# EAGLE library part 62202821821 (library Wurth_Elektronik2)
WR-PHD 1.27mm Dual Socket Header, 28 Pins=>Code : Con_BTB_SHD_1.27_2_62202821821 <http://katalog.we-online.de/media/thumbs2/eican/thb_Con_BTB_SHD_1.27_2_6220xx21821_pf2.jpg> Details see: http://katalog.we-online.de/en/em/622_0xx_218_21 Created 2014-06-04, Karrer Zheng 2014 (C) Würth Elektronik
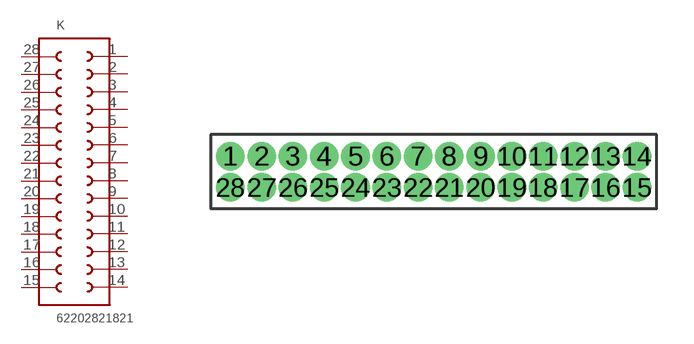
[diagram p306: symbol with the pads of 62202821821; footprint 62202821821]

Designator prefix K

## 62202821821  [62202821821]
1  1  pas
2  2  pas
3  3  pas
4  4  pas
5  5  pas
6  6  pas
7  7  pas
8  8  pas
9  9  pas
10  10  pas
11  11  pas
12  12  pas
13  13  pas
14  14  pas
15  15  pas
16  16  pas
17  17  pas
18  18  pas
19  19  pas
20  20  pas
21  21  pas
22  22  pas
23  23  pas
24  24  pas
25  25  pas
26  26  pas
27  27  pas
28  28  pas

## Footprint 62202821821 (pad centres in mm)
WR-PHD 1.27mm Dual Socket Header, 28 Pins
drill 0.65: 1 -8.255,0.635; 2 -6.985,0.635; 3 -5.715,0.635; 4 -4.445,0.635; 5 -3.175,0.635; 6 -1.905,0.635; 7 -0.635,0.635; 8 0.635,0.635; 9 1.905,0.635; 10 3.175,0.635; 11 4.445,0.635; 12 5.715,0.635; 13 6.985,0.635; 14 8.255,0.635; 15 8.255,-0.635; 16 6.985,-0.635; 17 5.715,-0.635; 18 4.445,-0.635; 19 3.175,-0.635; 20 1.905,-0.635; 21 0.635,-0.635; 22 -0.635,-0.635; 23 -1.905,-0.635; 24 -3.175,-0.635; 25 -4.445,-0.635; 26 -5.715,-0.635; 27 -6.985,-0.635; 28 -8.255,-0.635